# EAGLE library part CONN_05X2_RA (library 3D_MIG_Controller)
Connector Header Through Hole, Right Angle 10 position 0.100" (2.54mm)
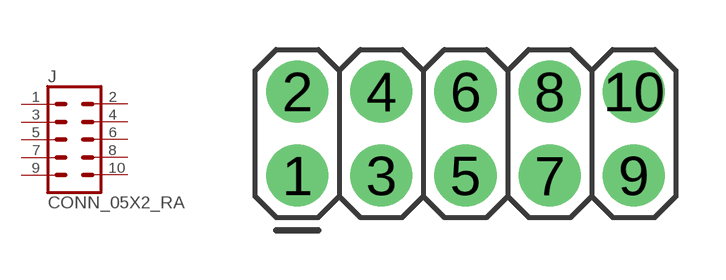
[diagram p44: symbol with the pads of 2X5; footprint 2X5]

Designator prefix J

## CONN_05X2_RAPTH (PARTNO: PH2RA-10-UA; VALUE: 10-pos)  [2X5]
1  1  pas
2  2  pas
3  3  pas
4  4  pas
5  5  pas
6  6  pas
7  7  pas
8  8  pas
9  9  pas
10  10  pas

## Footprint 2X5 (pad centres in mm)
Plated Through Hole - 2x5 Specifications: Pin count:10 Pin pitch:0.1" Example device(s): CONN_05x2
drill 1 pad 1.88: 1 0,0; 2 0,2.54; 3 2.54,0; 4 2.54,2.54; 5 5.08,0; 6 5.08,2.54; 7 7.62,0; 8 7.62,2.54; 9 10.16,0; 10 10.16,2.54